# Altium schematic symbol library KTD500B157M99A0B00.SchLib: 1 symbol
Pins are listed as number, name and electrical type; pins without a type are passive.

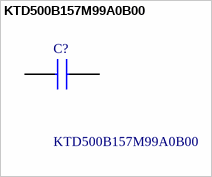
[diagram p0: symbol KTD500B157M99A0B00]

## KTD500B157M99A0B00
designator C?
Multilayer Ceramic Capacitors MLCC - Leaded 150uF 50V 20% X7R DIPPED RADIAL LEAD MULTILAYER CERAMIC CAPACITORS; Manufacturer_Name: Chemi-Con; Geometry.Height: 20mm; Mouser Part Number: 661-KTD500B157M99A0B; Mouser Price/Stock: https://www.mouser.co.uk/ProductDetail/United-Chemi-Con/KTD500B157M99A0B00?qs=YQnJFR48xcBMxPUKlvfAsA%3D%3D; Manufacturer_Part_Number: KTD500B157M99A0B00; Datasheet Link: https://www.mouser.co.uk/datasheet/2/420/ce-ntd-e-2018-1488869.pdf
footprint KTD500B157M99A0B00
pins: 1, 2